# EAGLE library part USB_RJ45_1-1909119-4 (library blinkinlabs)
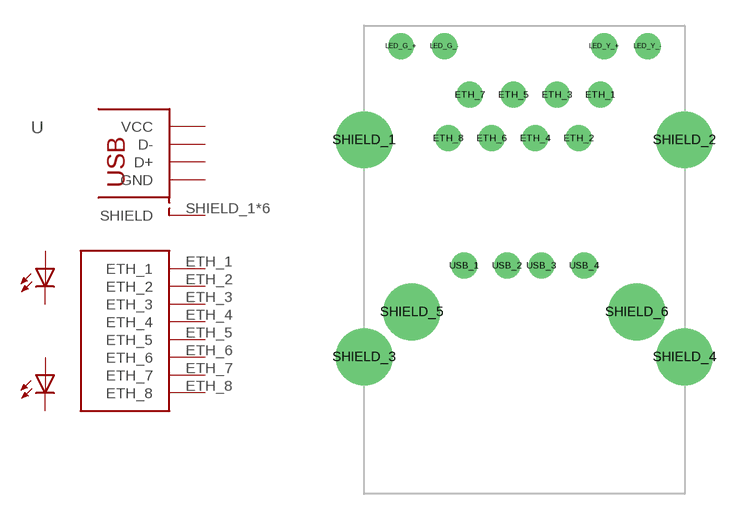
[diagram p25: symbol with the pads of USB_RJ45_1-1909119-4; footprint USB_RJ45_1-1909119-4]

Designator prefix -

## USB_RJ45_1-1909119-4  [USB_RJ45_1-1909119-4]
ETH_1  ETH_1
ETH_2  ETH_2
ETH_3  ETH_3
ETH_4  ETH_4
ETH_5  ETH_5
ETH_6  ETH_6
ETH_7  ETH_7
ETH_8  ETH_8
LED_G_+  GREEN_+  pas
LED_G_-  GREEN_-  pas
LED_Y_+  YELLOW_+  pas
LED_Y_-  YELLOW_-  pas
SHIELD_1  SHIELD
SHIELD_2  SHIELD
SHIELD_3  SHIELD
SHIELD_4  SHIELD
SHIELD_5  SHIELD
SHIELD_6  SHIELD
USB_1  VCC
USB_2  D-
USB_3  D+
USB_4  GND

## Footprint USB_RJ45_1-1909119-4 (pad centres in mm)
drill 1: ETH_1 4.445,15.32; ETH_2 3.175,12.78; ETH_3 1.905,15.32; ETH_4 0.635,12.78; ETH_5 -0.635,15.32; ETH_6 -1.905,12.78; ETH_7 -3.175,15.32; ETH_8 -4.445,12.78; LED_G_+ -7.2,18.16; LED_G_- -4.66,18.16; LED_Y_+ 4.66,18.16; LED_Y_- 7.2,18.16; USB_1 -3.5,5.34; USB_2 -1,5.34; USB_3 1,5.34; USB_4 3.5,5.34
drill 2.3: SHIELD_1 -9.35,12.68; SHIELD_2 9.35,12.68; SHIELD_3 -9.35,0; SHIELD_4 9.35,0; SHIELD_5 -6.57,2.63; SHIELD_6 6.57,2.63